# Altium schematic symbol library schematiclib.SchLib: 1 symbol
Pins are listed as number, name and electrical type; pins without a type are passive.

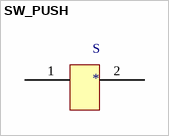
[diagram p0: symbol SW_PUSH]

## SW_PUSH
designator S
pins: 1, 2